# Altium footprint library LEDDimmerLib.PcbLib: 39 footprints (part 1 of 3)
Each footprint in its own frame and in the unit in brackets; x right, y up, seen from the top. Pads: shape width x height; smd on the part's side, far side on the other; paste and mask are expansions set on the pad; w line width, h text height; cw(c..) or ccw(c..) is an arc to the next point about the centre after c.
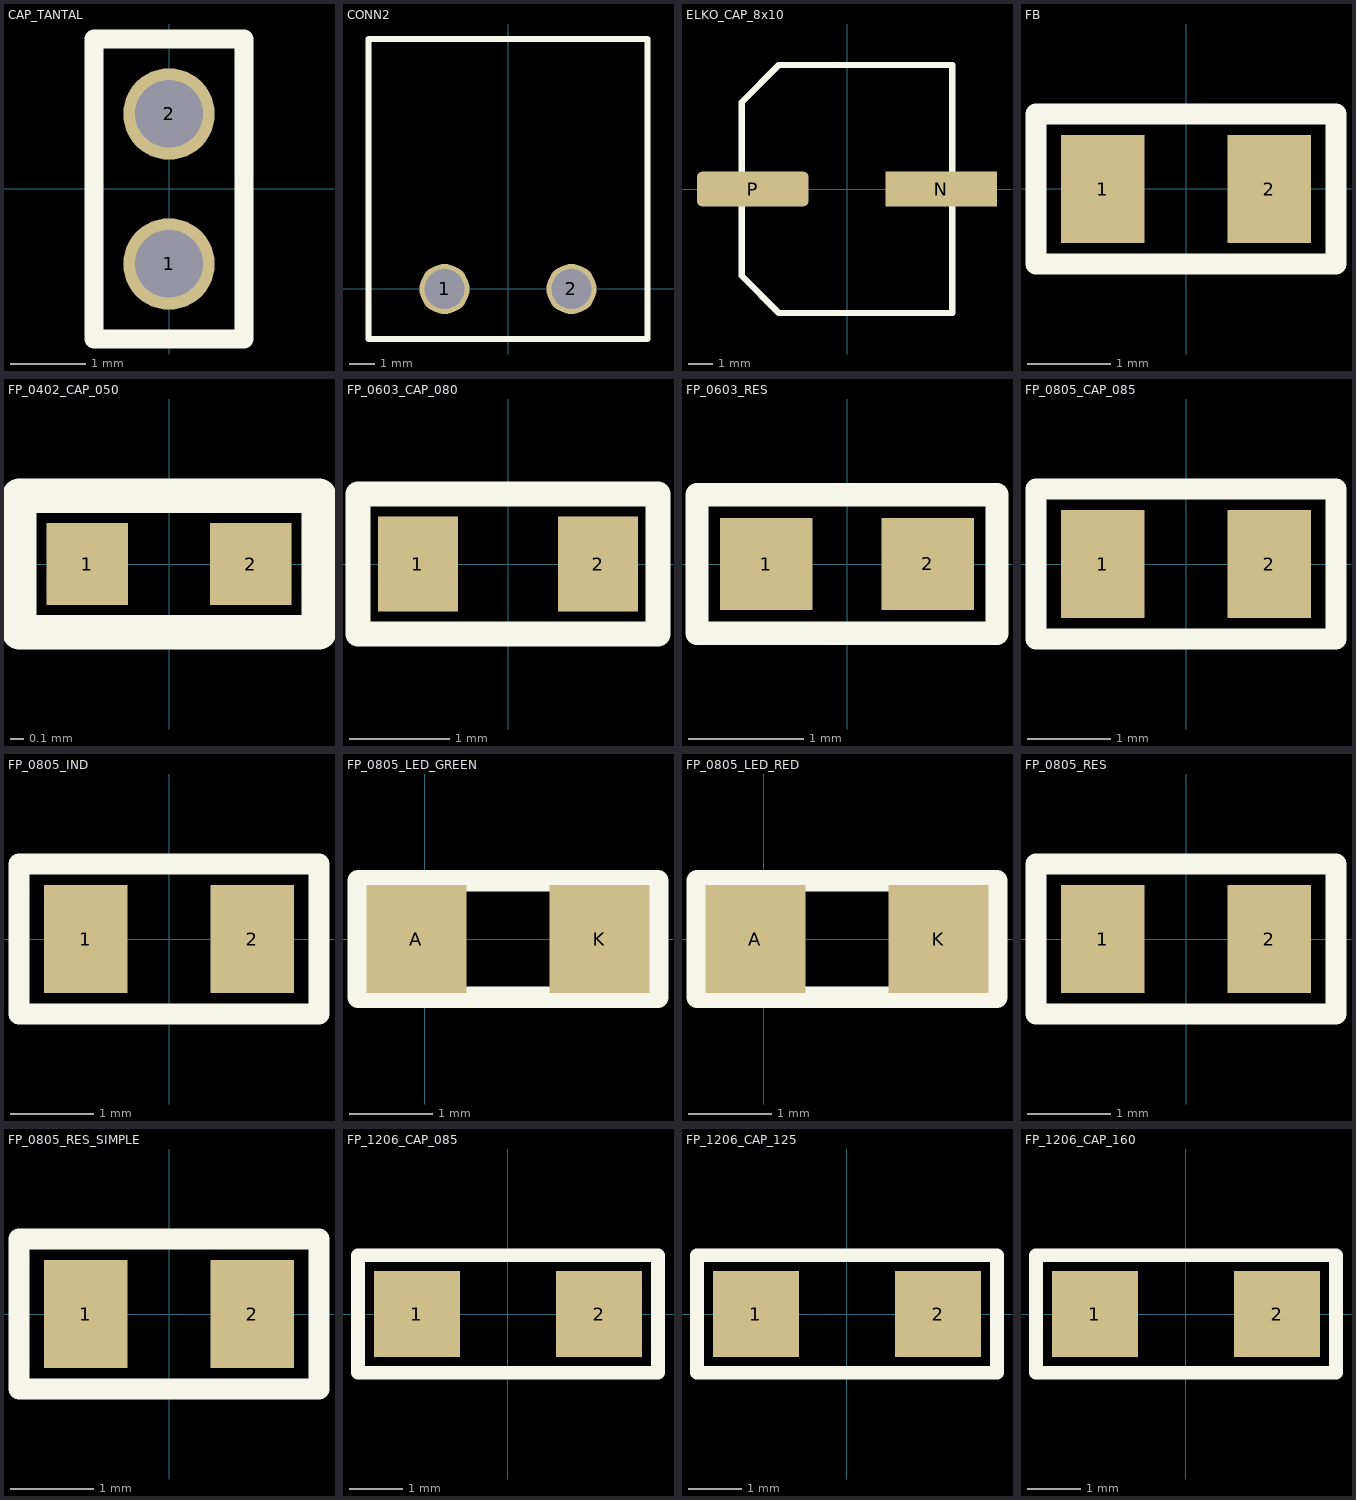
[diagram p0: the footprints below, top view; thin cyan lines are the x and y axes]

## CAP_TANTAL [mm] "2X1 tüskesor footprintje"
height 4.7
pads (2):
  round 1.219 hole 0.9: 1(0,-1) 2(0,1)
Top Overlay:
  lines w0.254: -1,-2 -1,2 1,2 1,-2 -1,-2

## CONN2 [mm] "CONN2"
pads (2):
  round 2 hole 1.6: 1(-2.54,0) 2(2.54,0)
Top Overlay:
  lines w0.254: -5.58,-2 5.58,-2 5.58,10 -5.58,10 -5.58,-2
3D body "ledstrip.stp": height 8.52, standoff -3.47, extent -6.08,-2 6.08,10

## ELKO_CAP_8x10 [mm] "Elko capactior"
height 10.5
pads (2):
  rect 4.5x1.4 smd: N(3.8,0)
  rrect30% 4.5x1.4 smd: P(-3.8,0)
Top Overlay:
  lines w0.254: -4.25,-3.5 -2.75,-5 4.25,-5 4.25,5 -2.75,5 -4.25,3.5 -4.25,-3.5
3D body "elko.step": height 10.3, standoff -0.2, extent -4.852,-4.25 4.848,4.25

## FB [mm] "0603 ferrite bead"
height 0.55
pads (2):
  rect 1x1.3 smd: 1(-1,0) 2(1,0)
Top Overlay:
  lines w0.254: -1.8,-0.9 1.8,-0.9 1.8,0.9 -1.8,0.9 -1.8,-0.9
3D body "0805RES.STEP": height 0.62, standoff 0.02, extent -1,-0.625 1,0.625

## FP_0402_CAP_050 [mm] "0.5mm magas 0402 kapacitás"
height 0.55
pads (2):
  rect 0.6x0.6 smd: 1(-0.6,0) 2(0.6,0)
Top Overlay:
  lines w0.254: -1.1,-0.5 1.1,-0.5 1.1,0.5 -1.1,0.5 -1.1,-0.5
3D body: height 0.5, standoff 0, extent -0.5,-0.25 -0.3,0.25
3D body: height 0.5, standoff 0, extent 0.3,-0.25 0.5,0.25
3D body: height 0.5, standoff 0, extent -0.3,-0.25 0.3,0.25

## FP_0603_CAP_080 [mm] "0.8mm magas 0603 kapacitás"
height 0.9
pads (2):
  rect 0.8x0.95 smd: 1(-0.9,0) 2(0.9,0)
Top Overlay:
  lines w0.254: -1.5,-0.7 1.5,-0.7 1.5,0.7 -1.5,0.7 -1.5,-0.7
3D body: height 0.8, standoff 0, extent -0.8,-0.4 -0.5,0.4
3D body: height 0.8, standoff 0, extent 0.5,-0.4 0.762,0.4
3D body: height 0.8, standoff 0, extent -0.5,-0.4 0.5,0.4

## FP_0603_RES [mm] "0603 ellenállás"
height 0.55
pads (2):
  rect 0.8x0.8 smd: 1(-0.7,0) 2(0.7,0)
Top Overlay:
  lines w0.2: -1.3,-0.6 -1.3,0.6 1.3,0.6 1.3,-0.6 -1.3,-0.6
3D body "0603RES.STEP": height 0.44, standoff -0.01, extent -0.8,-0.4 0.8,0.4

## FP_0805_CAP_085 [mm] "0805 kapacitás YAGEO 0.85mm magas"
height 0.86
pads (2):
  rect 1x1.3 smd: 1(-1,0) 2(1,0)
Top Overlay:
  lines w0.254: -1.8,-0.9 -1.8,0.9 1.8,0.9 1.8,-0.9 -1.8,-0.9
3D body: height 0.85, standoff 0, extent -0.644,-0.635 0.676,0.635
3D body: height 0.85, standoff 0, extent 0.676,-0.635 1.032,0.635
3D body: height 0.85, standoff 0, extent -1,-0.635 -0.644,0.635

## FP_0805_IND [mm] "0805 power inductor"
height 1.45
pads (2):
  rect 1x1.3 smd: 1(-1,0) 2(1,0)
Top Overlay:
  lines w0.254: -1.8,-0.9 -1.8,0.9 1.8,0.9 1.8,-0.9 -1.8,-0.9
3D body: height 1.25, standoff 0, extent -0.644,-0.635 0.676,0.635
3D body: height 1.25, standoff 0, extent 0.676,-0.635 1.032,0.635
3D body: height 1.25, standoff 0, extent -1,-0.635 -0.644,0.635

## FP_0805_LED_GREEN [mm] "0805 méretû zöld LED"
height 1
pads (2):
  rect 1.2x1.3 smd: A(-0.1,0) K(2.1,0)
Top Overlay:
  lines w0.254: 2.3,-0.7 2.3,0.7 ; -0.8,-0.7 2.8,-0.7 2.8,0.7 -0.8,0.7 -0.8,-0.7
3D body "led_0805_green.step": height 1.1, standoff 0, extent 0.006,-0.625 2.026,0.625

## FP_0805_LED_RED [mm] "0805 méretû piros LED"
height 1
pads (2):
  rect 1.2x1.3 smd: A(-0.1,0) K(2.1,0)
Top Overlay:
  lines w0.254: 2.3,-0.7 2.3,0.7 ; -0.8,-0.7 2.8,-0.7 2.8,0.7 -0.8,0.7 -0.8,-0.7
3D body "led_0805r.STEP": height 1.1, standoff 0, extent 0.006,-0.625 2.026,0.625

## FP_0805_RES [mm] "0805 ellenállás"
height 0.5
pads (2):
  rect 1x1.3 smd: 1(-1,0) 2(1,0)
Top Overlay:
  lines w0.254: -1.8,-0.9 -1.8,0.9 1.8,0.9 1.8,-0.9 -1.8,-0.9
3D body "0805RES.STEP": height 0.62, standoff 0.02, extent -1,-0.625 1,0.625

## FP_0805_RES_SIMPLE [mm] "0805 ellenállás, amit én csináltam"
height 0.5
pads (2):
  rect 1x1.3 smd: 1(-1,0) 2(1,0)
Top Overlay:
  lines w0.254: -1.8,-0.9 -1.8,0.9 1.8,0.9 1.8,-0.9 -1.8,-0.9
3D body: height 0.5, standoff 0, extent -0.644,-0.635 0.676,0.635
3D body: height 0.5, standoff 0, extent 0.676,-0.635 1.032,0.635
3D body: height 0.5, standoff 0, extent -1,-0.635 -0.644,0.635

## FP_1206_CAP_085 [mm] "1206 kapacitás 0.85 mm"
height 0.86
pads (2):
  rect 1.6x1.6 smd: 1(-1.7,0) 2(1.7,0)
Top Overlay:
  lines w0.254: -2.8,-1.1 2.8,-1.1 2.8,1.1 -2.8,1.1 -2.8,-1.1
3D body: height 0.85, standoff 0, extent -1.065,-0.787 1.119,0.787
3D body: height 0.85, standoff 0, extent 1.119,-0.787 1.577,0.787
3D body: height 0.85, standoff 0, extent -1.522,-0.787 -1.065,0.787

## FP_1206_CAP_125 [mm] "1206 kapacitás 1.25 mm"
height 1.27
pads (2):
  rect 1.6x1.6 smd: 1(-1.7,0) 2(1.7,0)
Top Overlay:
  lines w0.254: -2.8,-1.1 -2.8,1.1 2.8,1.1 2.8,-1.1 -2.8,-1.1
3D body: height 1.25, standoff 0, extent -1.522,-0.787 -1.065,0.787
3D body: height 1.25, standoff 0, extent 1.119,-0.787 1.577,0.787
3D body: height 1.25, standoff 0, extent -1.065,-0.787 1.119,0.787

## FP_1206_CAP_160 [mm] "1206 kapacitás 1.6mm magas"
height 1.62
pads (2):
  rect 1.6x1.6 smd: 1(-1.7,0) 2(1.7,0)
Top Overlay:
  lines w0.254: -2.8,-1.1 -2.8,1.1 2.8,1.1 2.8,-1.1 -2.8,-1.1
3D body: height 1.6, standoff 0, extent -1.522,-0.787 -1.065,0.787
3D body: height 1.6, standoff 0, extent 1.119,-0.787 1.577,0.787
3D body: height 1.6, standoff 0, extent -1.065,-0.787 1.119,0.787